# EAGLE library part LAN8710A (library BSB-LAN)
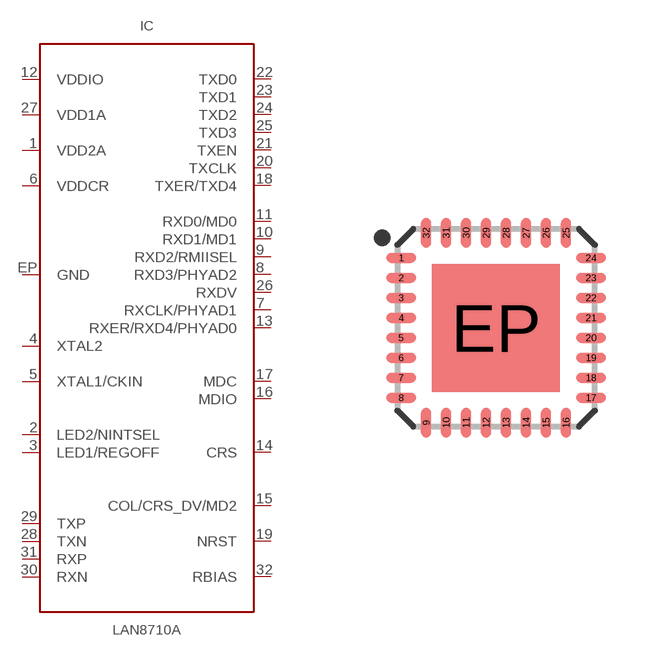
[diagram p2: symbol with the pads of QFN-5X5-32; footprint QFN-5X5-32]

Designator prefix IC

## LAN8710A-EZC (JLC_ROT: 270; LCSC_PART: C46185)  [QFN-5X5-32]
1  VDD2A  pwr
2  LED2/NINTSEL
3  LED1/REGOFF
4  XTAL2  out
5  XTAL1/CKIN  in
6  VDDCR  pwr
7  RXCLK/PHYAD1
8  RXD3/PHYAD2
9  RXD2/RMIISEL
10  RXD1/MD1
11  RXD0/MD0
12  VDDIO  pwr
13  RXER/RXD4/PHYAD0
14  CRS
15  COL/CRS_DV/MD2
16  MDIO
17  MDC  in
18  TXER/TXD4
19  NRST  in
20  TXCLK
21  TXEN  in
22  TXD0  in
23  TXD1  in
24  TXD2  in
25  TXD3  in
26  RXDV
27  VDD1A  pwr
28  TXN
29  TXP
30  RXN
31  RXP
32  RBIAS  pas
EP  GND  pwr

## Footprint QFN-5X5-32 (pad centres in mm)
RHB (S-PQFP-N32) Source: http://focus.ti.com/lit/ds/symlink/tusb2046b.pdf
smd 0.75 x 0.25: 1 -2.375,1.75; 2 -2.375,1.25; 3 -2.375,0.75; 4 -2.375,0.25; 5 -2.375,-0.25; 6 -2.375,-0.75; 7 -2.375,-1.25; 8 -2.375,-1.75; 17 2.375,-1.75; 18 2.375,-1.25; 19 2.375,-0.75; 20 2.375,-0.25; 21 2.375,0.25; 22 2.375,0.75; 23 2.375,1.25; 24 2.375,1.75
smd 0.25 x 0.75: 9 -1.75,-2.375; 10 -1.25,-2.375; 11 -0.75,-2.375; 12 -0.25,-2.375; 13 0.25,-2.375; 14 0.75,-2.375; 15 1.25,-2.375; 16 1.75,-2.375; 25 1.75,2.375; 26 1.25,2.375; 27 0.75,2.375; 28 0.25,2.375; 29 -0.25,2.375; 30 -0.75,2.375; 31 -1.25,2.375; 32 -1.75,2.375
smd 3.2 x 3.2: EP 0,0